# EAGLE library part SX128* (library IC_Wireless-RF)
SX1280/81 - Long Range, Low Power, 2.4 GHz Transceiver with Ranging Capability Datasheet <https://semtech.my.salesforce.com/sfc/p/#E0000000JelG/a/2R000000HoCW/8EVYKPLcthcKCB_cKzApAc6Xf6tAHtn9.UKcOh7SNmg> Product Page <https://www.semtech.com/products/wireless-rf/lora-24ghz/sx1280>
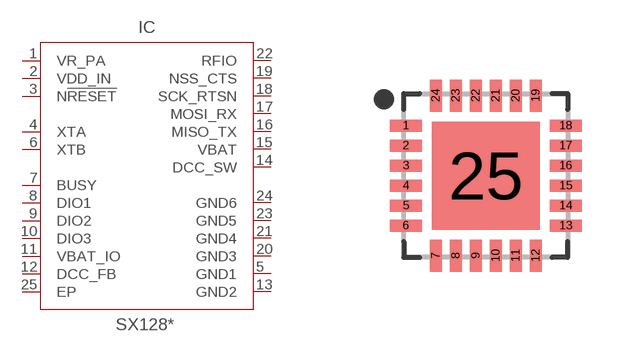
[diagram p16: symbol with the pads of QFN50P400X400X100-25T270; footprint QFN50P400X400X100-25T270]

Designator prefix IC

## SX1280 (CATEGORY: IC_Wireless-RF; DESCRIPTION: IC RF TXRX 802.15.4 24WFQFN; FREQUENCY: 2.4GHz; MANUFACTURER: Semtech; MPN: SX1280IMLTRT; OPERATING_TEMP: -40°C to 85°C; PART_STATUS: Active; SERIES: SX1280; SUB-CATEGORY: Transceiver; TYPE: LoRa® 2.4GHz; VALUE: SX1280), SX1281 (CATEGORY: IC_Wireless-RF; DESCRIPTION: IC RF TXRX 802.15.4 24WFQFN; FREQUENCY: 2.4GHz; MANUFACTURER: Semtech; MPN: SX1281IMLTRT; OPERATING_TEMP: -40°C to 85°C; PART_STATUS: Active; SERIES: SX1281; SUB-CATEGORY: Transceiver; TYPE: LoRa® 2.4GHz; VALUE: SX1281)  [QFN50P400X400X100-25T270]
1  VR_PA  pwr
2  VDD_IN  pwr
3  N!RESET!  in
4  XTA
5  GND1  pas
6  XTB
7  BUSY  out
8  DIO1
9  DIO2
10  DIO3
11  VBAT_IO  pwr
12  DCC_FB  out
13  GND2  pas
14  DCC_SW  out
15  VBAT  pwr
16  MISO_TX  out
17  MOSI_RX  in
18  SCK_RTSN  in
19  NSS_CTS  in
20  GND3  pas
21  GND4  pas
22  RFIO
23  GND5  pas
24  GND6  pas
25  EP  pas

## Footprint QFN50P400X400X100-25T270 (pad centres in mm)
24-QFN, 0.50 mm pitch, 4.00 X 4.00 X 1.00 mm body, 2.70 X 2.70 mm thermal pad 24-pin QFN package with 0.50 mm pitch with body size 4.00 X 4.00 X 1.00 mm and thermal pad size 2.70 X 2.70 mm
smd 0.8 x 0.3: 1 -2,1.25; 2 -2,0.75; 3 -2,0.25; 4 -2,-0.25; 5 -2,-0.75; 6 -2,-1.25; 13 2,-1.25; 14 2,-0.75; 15 2,-0.25; 16 2,0.25; 17 2,0.75; 18 2,1.25
smd 0.3 x 0.8: 7 -1.25,-2; 8 -0.75,-2; 9 -0.25,-2; 10 0.25,-2; 11 0.75,-2; 12 1.25,-2; 19 1.25,2; 20 0.75,2; 21 0.25,2; 22 -0.25,2; 23 -0.75,2; 24 -1.25,2
smd 2.7 x 2.7: 25 0,0